# Altium footprint library Virtual Parts.PcbLib: 5 footprints
Each footprint in its own frame and in the unit in brackets; x right, y up, seen from the top. Pads: shape width x height; smd on the part's side, far side on the other; paste and mask are expansions set on the pad; w line width, h text height; cw(c..) or ccw(c..) is an arc to the next point about the centre after c.
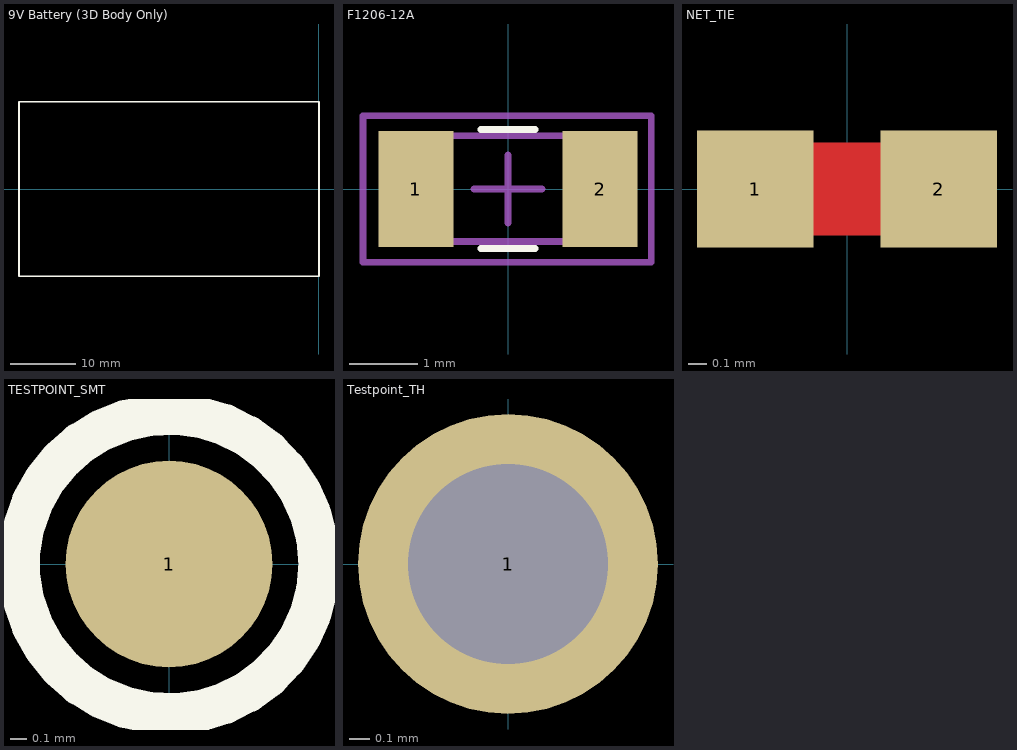
[diagram p0: the footprints below, top view; thin cyan lines are the x and y axes]

## 9V Battery (3D Body Only) [mm]
Top Overlay:
  lines w0.254: -45.5,-13.25 0,-13.25 0,13.25 -45.5,13.25 -45.5,-13.25
3D body "9V_Batterie v5.step": height 17.51, standoff 0.01, extent -45.5,-13.25 3.5,13.25

## F1206-12A [mm]
pads (2):
  rect 1.1x1.7 smd: 1(-1.35,0) 2(1.35,0)
Top Overlay:
  lines w0.1: -0.4,-0.875 0.4,-0.875 ; -0.4,0.875 0.4,0.875
Mechanical 3:
  lines w0.1: -0.5,0 0.5,0 ; 0,-0.5 0,0.5 ; -2.125,-1.075 2.1,-1.075 2.1,1.075 -2.125,1.075 -2.125,-1.075
  text ".Designator" at -1.956,-0.279 h0.38
Mechanical 5:
  lines w0.1: -1.525,-0.772 1.55,-0.772 1.55,0.78 -1.525,0.78 -1.525,-0.772
3D body "0ZCJ0035FF2G.step": height 0.47, standoff -0.03, extent -1.7,-0.85 1.7,0.85

## NET_TIE [mm]
pads (2):
  rect 0.635x0.635 smd: 1(-0.5,0) 2(0.5,0)
Top Layer:
  lines w0.508: -0.5,0 0.5,0

## TESTPOINT_SMT [mm]
pads (1):
  round 1.27 smd: 1(0,0)
Top Overlay:
  circle w0.254: c0,0 r0.922

## Testpoint_TH [mm]
pads (1):
  round 1.5 hole 1: 1(0,0)
3D body "Keystone 5001 THT Test Point v1.step": height 4.57, standoff -3.05, extent -1.068,-1.07 1.068,1.062